# Altium schematic symbol library CN2-SMD.Schlib: 1 symbol
Pins are listed as number, name and electrical type; pins without a type are passive.

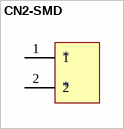
[diagram p0: symbol CN2-SMD]

## CN2-SMD
designator *
pins: 1, 2